# Altium footprint library NTC_0603.PcbLib: 1 footprints
Each footprint in its own frame and in the unit in brackets; x right, y up, seen from the top. Pads: shape width x height; smd on the part's side, far side on the other; paste and mask are expansions set on the pad; w line width, h text height; cw(c..) or ccw(c..) is an arc to the next point about the centre after c.
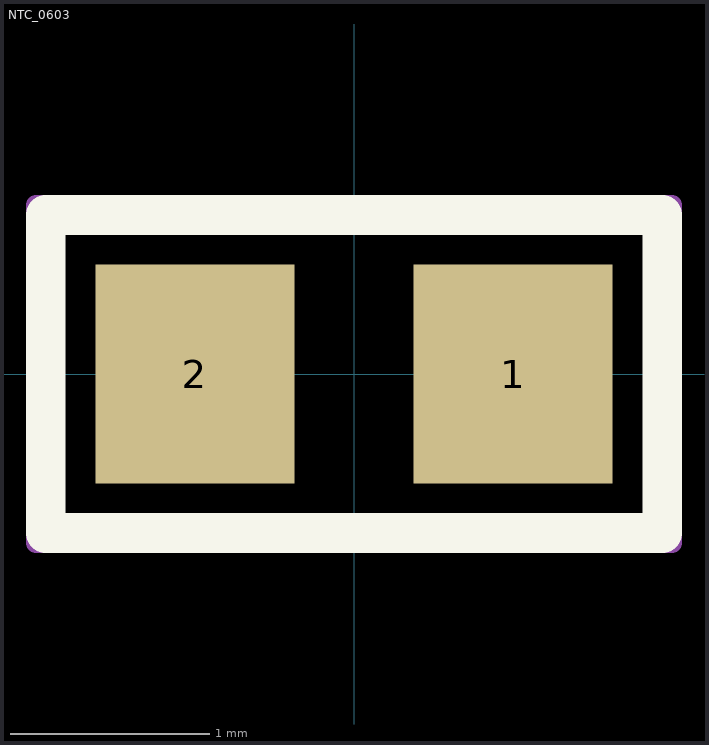
[diagram p0: the footprint, top view; thin cyan lines are the x and y axes]

## NTC_0603 [mm]
pads (2):
  rect 1x1.1 smd: 1(0.8,0) 2(-0.8,0)
Top Overlay:
  lines w0.2: -1.55,-0.8 -1.55,0.8 1.55,0.8 1.55,-0.8 -1.55,-0.8
Top Courtyard:
  lines w0.1: -1.6,-0.85 1.6,-0.85 1.6,0.85 -1.6,0.85 -1.6,-0.85
3D body "885012206095.STEP": height 0.8, standoff 0, extent -0.8,-0.4 0.8,0.4